# Altium footprint library PCB - LEADED - SOT95P240X110-3N.PCBLIB: 1 footprints
Each footprint in its own frame and in the unit in brackets; x right, y up, seen from the top. Pads: shape width x height; smd on the part's side, far side on the other; paste and mask are expansions set on the pad; w line width, h text height; cw(c..) or ccw(c..) is an arc to the next point about the centre after c.
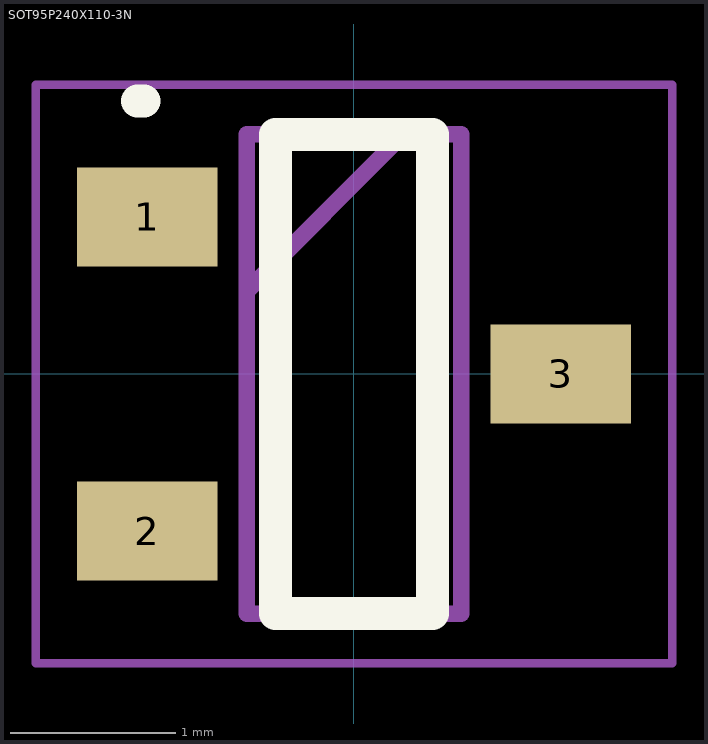
[diagram p0: the footprint, top view; thin cyan lines are the x and y axes]

## SOT95P240X110-3N [mm]
pads (3):
  rect 0.85x0.6 smd: 1(-1.25,0.95) 2(-1.25,-0.95) 3(1.25,0)
Top Overlay:
  lines w0.2: -1.309,1.651 -1.27,1.651 ; -0.475,-1.45 0.475,-1.45 0.475,1.45 -0.475,1.45 -0.475,-1.45
Top Assembly:
  lines w0.1: -0.65,0.5 0.3,1.45 ; -0.65,-1.45 0.65,-1.45 0.65,1.45 -0.65,1.45 -0.65,-1.45
Top Courtyard:
  lines w0.05: -1.925,-1.75 1.925,-1.75 1.925,1.75 -1.925,1.75 -1.925,-1.75
Top Designator:
  text ".Designator" at -1.87,2.695 h1
Top Value (Mech13):
  text ".Comment" at -1.89,1.966 h1
3D body "BAS4004E6327HTSA1.stp": height 1.1, standoff 0, extent -1.2,-1.45 1.2,1.45